# Altium footprint library UCDFR Passives.PcbLib: 35 footprints (part 3 of 3)
Each footprint in its own frame and in the unit in brackets; x right, y up, seen from the top. Pads: shape width x height; smd on the part's side, far side on the other; paste and mask are expansions set on the pad; w line width, h text height; cw(c..) or ccw(c..) is an arc to the next point about the centre after c.
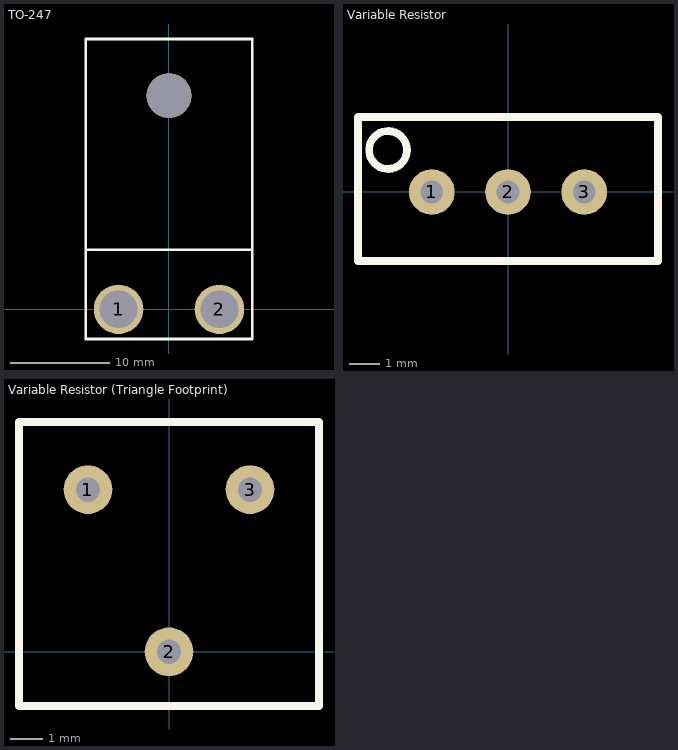
[diagram p2: the footprints below, top view; thin cyan lines are the x and y axes]

## TO-247 [mm] "TO-247 Package"
pads (3):
  round 5 hole 3.8: 1(-5.1,0) 2(5.1,0)
  round 4.5 hole 4.5 unplated: ""(0,21.59)
Top Overlay:
  lines w0.254: -8.3,6 8.4,6 ; 8.4,6 8.4,-3 -8.4,-3 -8.4,6.4 -8.4,27.3 8.4,27.3 8.4,6.3 8.4,6
3D body: height 5.1, standoff -2.46, extent -8.005,-0.61 8.005,26.78

## Variable Resistor [mil]
pads (3):
  round 60 hole 30: 1(-100,0) 2(0,0) 3(100,0)
Top Overlay:
  circle w10: c-157.48,55.12 r24.9
  lines w10: -196.85,-90.55 196.85,-90.55 196.85,98.43 -196.85,98.43 -196.85,-90.55

## Variable Resistor (Triangle Footprint) [mil]
pads (3):
  round 60 hole 30: 1(-100,200) 2(0,0) 3(100,200)
Top Overlay:
  lines w10: -185.04,-66.93 -185.04,283.46 185.04,283.46 185.04,-66.93 -185.04,-66.93
3D body: height 196.85, standoff -233.15, extent -188.5,-88.13 188.5,288.86